# Altium schematic symbol library SCH - MCU - STM32 - ST MICROELECTRONICS STM32F098RCYX WLCSP64.SchLib: 1 symbol
Pins are listed as number, name and electrical type; pins without a type are passive.

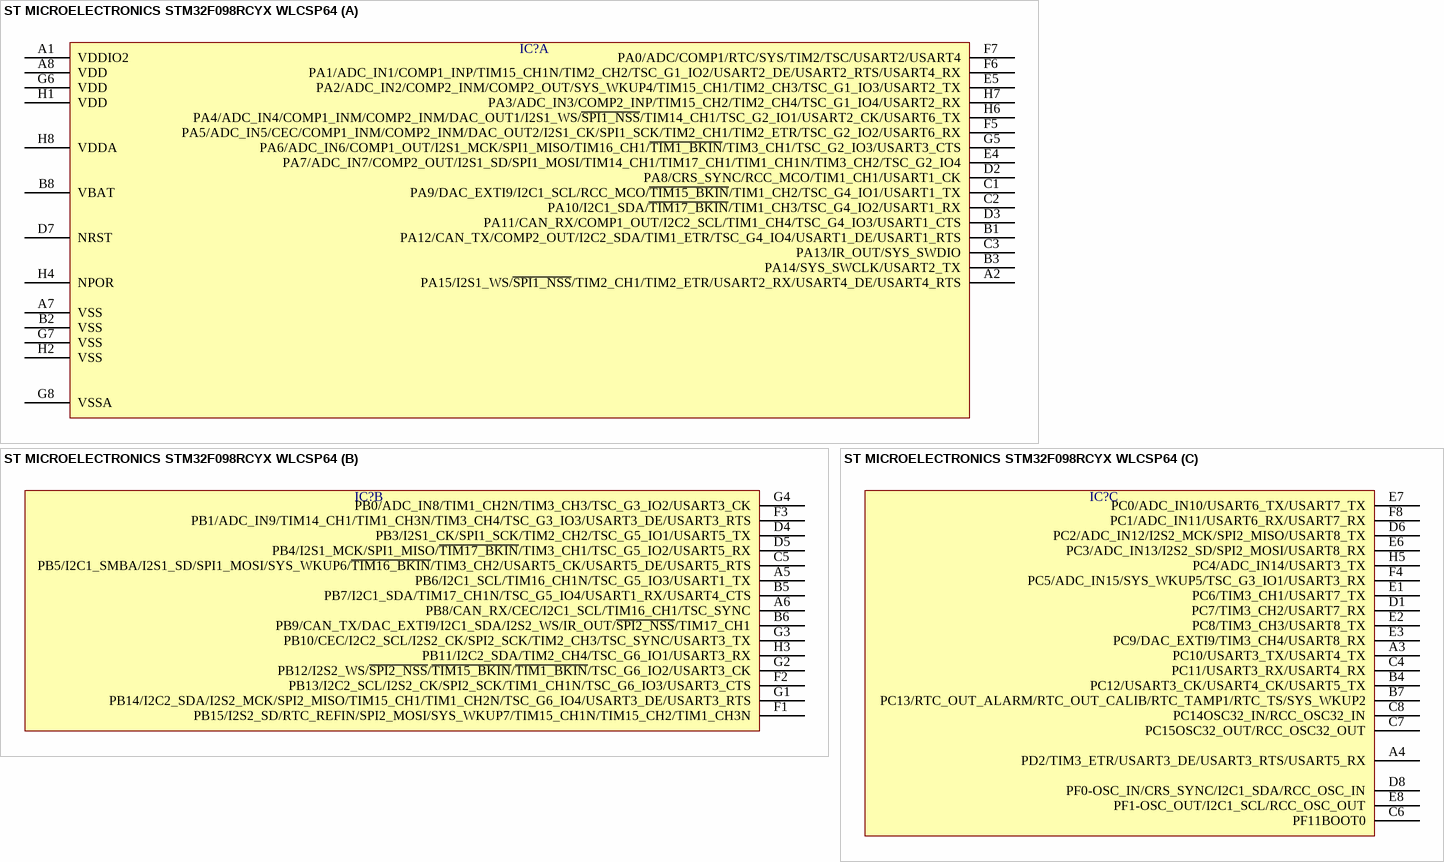
[diagram p0: symbol ST MICROELECTRONICS STM32F098RCYX WLCSP64]

## ST MICROELECTRONICS STM32F098RCYX WLCSP64
designator IC?  (value not drawn)
part A pins: A1 VDDIO2, A2 PA15/I2S1_WS/~{SPI1_NSS}/TIM2_CH1/TIM2_ETR/USART2_RX/USART4_DE/USART4_RTS, A7 VSS, A8 VDD, B1 PA12/CAN_TX/COMP2_OUT/I2C2_SDA/TIM1_ETR/TSC_G4_IO4/USART1_DE/USART1_RTS, B2 VSS, B3 PA14/SYS_SWCLK/USART2_TX, B8 VBAT, C1 PA9/DAC_EXTI9/I2C1_SCL/RCC_MCO/~{TIM15_BKIN}/TIM1_CH2/TSC_G4_IO1/USART1_TX, C2 PA10/I2C1_SDA/~{TIM17_BKIN}/TIM1_CH3/TSC_G4_IO2/USART1_RX, C3 PA13/IR_OUT/SYS_SWDIO, D2 PA8/CRS_SYNC/RCC_MCO/TIM1_CH1/USART1_CK, D3 PA11/CAN_RX/COMP1_OUT/I2C2_SCL/TIM1_CH4/TSC_G4_IO3/USART1_CTS, D7 NRST, E4 PA7/ADC_IN7/COMP2_OUT/I2S1_SD/SPI1_MOSI/TIM14_CH1/TIM17_CH1/TIM1_CH1N/TIM3_CH2/TSC_G2_IO4, E5 PA2/ADC_IN2/COMP2_INM/COMP2_OUT/SYS_WKUP4/TIM15_CH1/TIM2_CH3/TSC_G1_IO3/USART2_TX, F5 PA5/ADC_IN5/CEC/COMP1_INM/COMP2_INM/DAC_OUT2/I2S1_CK/SPI1_SCK/TIM2_CH1/TIM2_ETR/TSC_G2_IO2/USART6_RX, F6 PA1/ADC_IN1/COMP1_INP/TIM15_CH1N/TIM2_CH2/TSC_G1_IO2/USART2_DE/USART2_RTS/USART4_RX, F7 PA0/ADC/COMP1/RTC/SYS/TIM2/TSC/USART2/USART4, G5 PA6/ADC_IN6/COMP1_OUT/I2S1_MCK/SPI1_MISO/TIM16_CH1/~{TIM1_BKIN}/TIM3_CH1/TSC_G2_IO3/USART3_CTS, G6 VDD, G7 VSS, G8 VSSA, H1 VDD, H2 VSS, H4 NPOR, H6 PA4/ADC_IN4/COMP1_INM/COMP2_INM/DAC_OUT1/I2S1_WS/~{SPI1_NSS}/TIM14_CH1/TSC_G2_IO1/USART2_CK/USART6_TX, H7 PA3/ADC_IN3/COMP2_INP/TIM15_CH2/TIM2_CH4/TSC_G1_IO4/USART2_RX, H8 VDDA
part B pins: A5 PB6/I2C1_SCL/TIM16_CH1N/TSC_G5_IO3/USART1_TX, A6 PB8/CAN_RX/CEC/I2C1_SCL/TIM16_CH1/TSC_SYNC, B5 PB7/I2C1_SDA/TIM17_CH1N/TSC_G5_IO4/USART1_RX/USART4_CTS, B6 PB9/CAN_TX/DAC_EXTI9/I2C1_SDA/I2S2_WS/IR_OUT/~{SPI2_NSS}/TIM17_CH1, C5 PB5/I2C1_SMBA/I2S1_SD/SPI1_MOSI/SYS_WKUP6/~{TIM16_BKIN}/TIM3_CH2/USART5_CK/USART5_DE/USART5_RTS, D4 PB3/I2S1_CK/SPI1_SCK/TIM2_CH2/TSC_G5_IO1/USART5_TX, D5 PB4/I2S1_MCK/SPI1_MISO/~{TIM17_BKIN}/TIM3_CH1/TSC_G5_IO2/USART5_RX, F1 PB15/I2S2_SD/RTC_REFIN/SPI2_MOSI/SYS_WKUP7/TIM15_CH1N/TIM15_CH2/TIM1_CH3N, F2 PB13/I2C2_SCL/I2S2_CK/SPI2_SCK/TIM1_CH1N/TSC_G6_IO3/USART3_CTS, F3 PB1/ADC_IN9/TIM14_CH1/TIM1_CH3N/TIM3_CH4/TSC_G3_IO3/USART3_DE/USART3_RTS, G1 PB14/I2C2_SDA/I2S2_MCK/SPI2_MISO/TIM15_CH1/TIM1_CH2N/TSC_G6_IO4/USART3_DE/USART3_RTS, G2 PB12/I2S2_WS/~{SPI2_NSS}/~{TIM15_BKIN}/~{TIM1_BKIN}/TSC_G6_IO2/USART3_CK, G3 PB10/CEC/I2C2_SCL/I2S2_CK/SPI2_SCK/TIM2_CH3/TSC_SYNC/USART3_TX, G4 PB0/ADC_IN8/TIM1_CH2N/TIM3_CH3/TSC_G3_IO2/USART3_CK, H3 PB11/I2C2_SDA/TIM2_CH4/TSC_G6_IO1/USART3_RX
part C pins: A3 PC10/USART3_TX/USART4_TX, A4 PD2/TIM3_ETR/USART3_DE/USART3_RTS/USART5_RX, B4 PC12/USART3_CK/USART4_CK/USART5_TX, B7 PC13/RTC_OUT_ALARM/RTC_OUT_CALIB/RTC_TAMP1/RTC_TS/SYS_WKUP2, C4 PC11/USART3_RX/USART4_RX, C6 PF11BOOT0, C7 PC15OSC32_OUT/RCC_OSC32_OUT, C8 PC14OSC32_IN/RCC_OSC32_IN, D1 PC7/TIM3_CH2/USART7_RX, D6 PC2/ADC_IN12/I2S2_MCK/SPI2_MISO/USART8_TX, D8 PF0-OSC_IN/CRS_SYNC/I2C1_SDA/RCC_OSC_IN, E1 PC6/TIM3_CH1/USART7_TX, E2 PC8/TIM3_CH3/USART8_TX, E3 PC9/DAC_EXTI9/TIM3_CH4/USART8_RX, E6 PC3/ADC_IN13/I2S2_SD/SPI2_MOSI/USART8_RX, E7 PC0/ADC_IN10/USART6_TX/USART7_TX, E8 PF1-OSC_OUT/I2C1_SCL/RCC_OSC_OUT, F4 PC5/ADC_IN15/SYS_WKUP5/TSC_G3_IO1/USART3_RX, F8 PC1/ADC_IN11/USART6_RX/USART7_RX, H5 PC4/ADC_IN14/USART3_TX